# Altium schematic symbol library MX23A40NF1.SchLib: 1 symbol
Pins are listed as number, name and electrical type; pins without a type are passive.

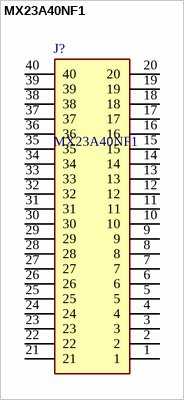
[diagram p0: symbol MX23A40NF1]

## MX23A40NF1
designator J?
Compact automotive Connector, Low profil, Double fin structure, 040 contacts, waterproof, board-to-cable application, 40 pos., Right angle Pin header; Manufacturer_Name: JAE; Geometry.Height: 18.9mm; Mouser Part Number: 656-MX23A40NF1; Mouser Price/Stock: https://www.mouser.co.uk/ProductDetail/JAE-Electronics/MX23A40NF1?qs=zwT864VV%2FIP%252BlXbBtrhgQg%3D%3D; Manufacturer_Part_Number: MX23A40NF1; Datasheet Link: https://www.jae.com/direct/topics/topics_file_download/topics_id=64777&ext_no=06&_lang=en&v=
footprint MX23A40NF1
pins: 1, 2, 3, 4, 5, 6, 7, 8, 9, 10, 11, 12, 13, 14, 15, 16, 17, 18, 19, 20, 21, 22, 23, 24, 25, 26, 27, 28, 29, 30, 31, 32, 33, 34, 35, 36, 37, 38, 39, 40